# EAGLE library part SR10 (library powercube)
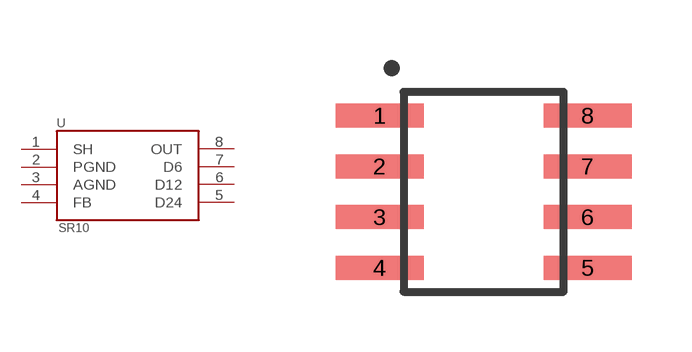
[diagram p0: symbol with the pads of SOIC_8; footprint SOIC_8]

Designator prefix -

## SR10A  [SOIC_8]
1  SH
2  PGND
3  AGND
4  FB
5  D24
6  D12
7  D6
8  OUT

## Footprint SOIC_8 (pad centres in mm)
smd 2.2 x 0.6: 1 -2.6,1.905; 2 -2.6,0.635; 3 -2.6,-0.635; 4 -2.6,-1.905; 5 2.6,-1.905; 6 2.6,-0.635; 7 2.6,0.635; 8 2.6,1.905